# Altium schematic symbol library F3311A7H121016E200.SchLib: 1 symbol
Pins are listed as number, name and electrical type; pins without a type are passive.

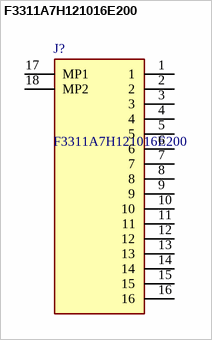
[diagram p0: symbol F3311A7H121016E200]

## F3311A7H121016E200
designator J?
Flex Connector, P=0.50mm, H=1.00mm, Right angle orientation, Flip type, ZIF, Double contact, point 16P; Manufacturer_Name: Amphenol Communications Solutions; Geometry.Height: 1.12mm; Manufacturer_Part_Number: F3311A7H121016E200; Mouser Part Number: 649-311A7H121016E200; Mouser Price/Stock: https://www.mouser.co.uk/ProductDetail/Amphenol-Aorora/F3311A7H121016E200?qs=DPoM0jnrROVwLto3hGOm7g%3D%3D; Arrow Part Number: *; Arrow Price/Stock: *; Datasheet Link: https://cdn.amphenol-cs.com/media/wysiwyg/files/drawing/f331.pdf
footprint F3311A7H121016E200
pins: 1, 2, 3, 4, 5, 6, 7, 8, 9, 10, 11, 12, 13, 14, 15, 16, 17 MP1, 18 MP2